# Altium schematic symbol library SimpleLib.SchLib: 23 symbols
Pins are listed as number, name and electrical type; pins without a type are passive.

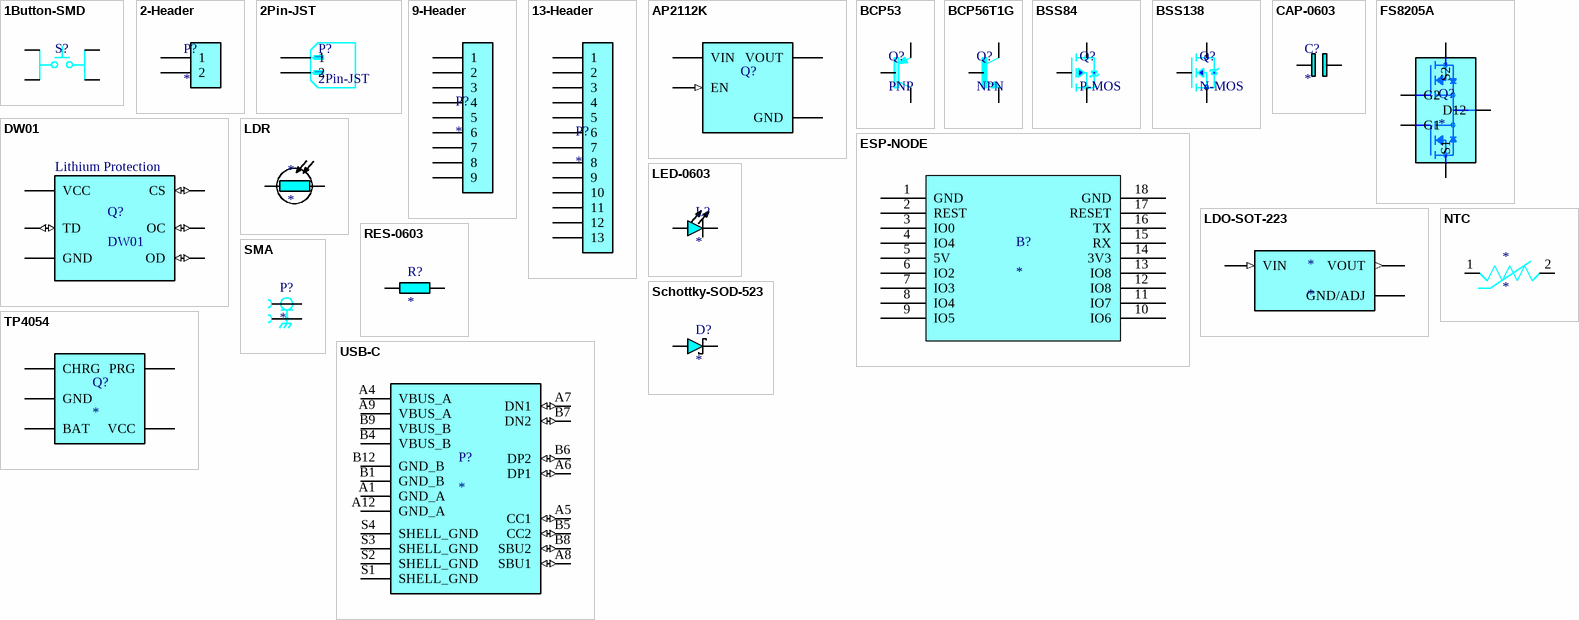
[diagram p0: symbols 1Button-SMD to USB-C]

## 1Button-SMD
designator S?  (value not drawn)
footprint 1Button-SMD
pins: 1, 2, 3, 4

## 2-Header
designator P?
footprint 2-Header
pins: 1, 2

## 2Pin-JST
designator P?
footprint 2Pin-JST
pins: 1, 2

## 9-Header
designator P?
footprint 9-Header
pins: 1, 2, 3, 4, 5, 6, 7, 8, 9

## 13-Header
designator P?
footprint 13-HEADER
pins: 1, 2, 3, 4, 5, 6, 7, 8, 9, 10, 11, 12, 13

## AP2112K
designator Q?
0.6A LDO / SOT23-5
footprint SOT23-5
pins: 1 VIN (power), 2 GND (power), 3 EN (in), 5 VOUT (power)

## BCP53
designator Q?, comment PNP
1.2A
footprint SOT-223
pins: 1 B, 2 E, 3 C

## BCP56T1G
designator Q?, comment NPN
1.2A
footprint SOT-223
pins: 1 B, 2 E, 3 C

## BSS84
designator Q?, comment P-MOS
130mA
footprint SOT23-5
pins: 1 G, 2 S, 3 D

## BSS138
designator Q?, comment N-MOS
footprint SOT32-3
pins: 1 G, 2 S, 3 D

## CAP-0603
designator C?
footprint CAP-0603
pins: 1, 2

## DW01
designator Q?
SOT23-6
footprint SOT23-6
pins: 1 OD (io), 2 CS (io), 3 OC (io), 4 TD (io), 5 VCC (power), 6 GND (power)
text: Lithium Protection

## ESP-NODE
designator B?
ESP32C2
footprint ESP-NODE
pins: 1 GND, 2 REST, 3 IO0, 4 IO4, 5 5V, 6 IO2, 7 IO3, 8 IO4, 9 IO5, 10 IO6, 11 IO7, 12 IO8, 13 IO8, 14 3V3, 15 RX, 16 TX, 17 RESET, 18 GND

## FS8205A
designator Q?
footprint SOT23-6
pins: 1 S1, 2 D12, 3 S2, 4 G2, 5 D12, 6 G1

## LDO-SOT-223
designator *
footprint SOT-223
pins: 1 GND/ADJ (power), 2 VOUT (out), 3 VIN (in)

## LDR
designator *
footprint LDR
pins: 1, 2

## LED-0603
designator L?
footprint LED-0603
pins: A, C

## NTC
designator *
footprint NTC
pins: 1, 2

## RES-0603
designator R?
footprint RES-0603
pins: 1, 2

## Schottky-SOD-523
designator D?
footprint SOD-523
pins: 1 K, 2 A

## SMA
designator P?
footprint SMA
pins: 1, S1 2, S2 2, S3 2, S4 2

## TP4054
designator Q?
footprint SOT23-5
pins: 1 CHRG (power), 2 GND, 3 BAT, 4 VCC (power), 5 PRG (power)

## USB-C
designator P?
footprint USB-C
pins: A1 GND_A (power), A4 VBUS_A (power), A5 CC1 (io), A6 DP1 (io), A7 DN1 (io), A8 SBU1 (io), A9 VBUS_A (power), A12 GND_A (power), B1 GND_B (power), B4 VBUS_B (power), B5 CC2 (io), B6 DP2 (io), B7 DN2 (io), B8 SBU2 (io), B9 VBUS_B (power), B12 GND_B (power), S1 SHELL_GND (power), S2 SHELL_GND (power), S3 SHELL_GND (power), S4 SHELL_GND (power)